# EAGLE library part STPROXSENSOR (library Nick'sEagle)
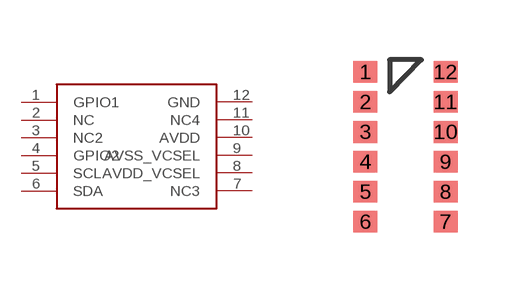
[diagram p5: symbol with the pads of STPROXSENSOR; footprint STPROXSENSOR]

Designator prefix -

## STPROXSENSOR  [STPROXSENSOR]
1  GPIO1
2  NC
3  NC2
4  GPIO2
5  SCL
6  SDA
7  NC3
8  AVDD_VCSEL
9  AVSS_VCSEL
10  AVDD
11  NC4
12  GND

## Footprint STPROXSENSOR (pad centres in mm)
smd 0.6 x 0.55: 1 -1,1.5; 2 -1,0.75; 3 -1,0; 4 -1,-0.75; 5 -1,-1.5; 6 -1,-2.25; 7 1,-2.25; 8 1,-1.5; 9 1,-0.75; 10 1,0; 11 1,0.75; 12 1,1.5